# Altium footprint library B 变压器.PcbLib: 17 footprints (part 1 of 2)
Each footprint in its own frame and in the unit in brackets; x right, y up, seen from the top. Pads: shape width x height; smd on the part's side, far side on the other; paste and mask are expansions set on the pad; w line width, h text height; cw(c..) or ccw(c..) is an arc to the next point about the centre after c.
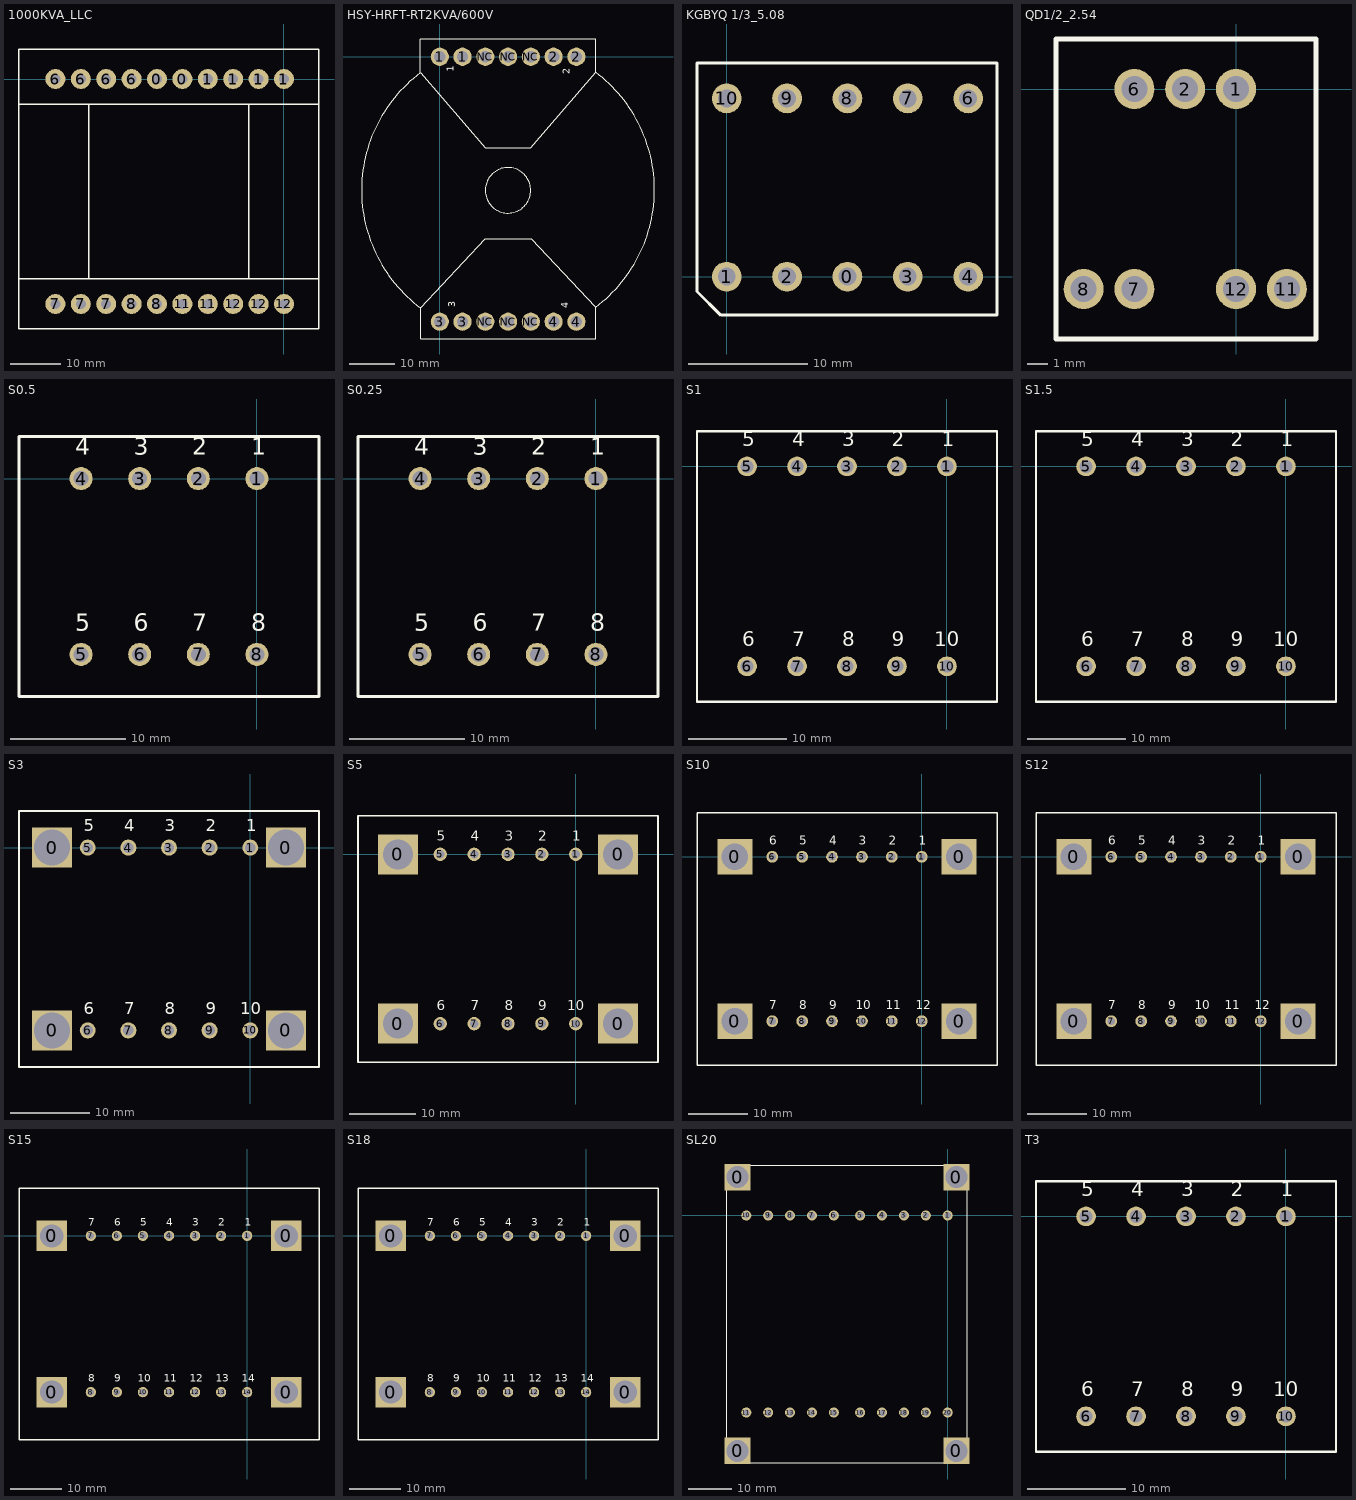
[diagram p0: the footprints below, top view; thin cyan lines are the x and y axes]

## 1000KVA_LLC [mm]
pads (20):
  round 4 hole 2: 0(-25.4,0) 0(-20.32,0) 1(-15.24,0) 1(-10.16,0) 1(-5.08,0) 1(0,0) 6(-45.72,0) 6(-40.64,0) 6(-35.56,0) 6(-30.48,0) 7(-45.72,-45) 7(-40.64,-45) 7(-35.56,-45) 8(-30.48,-45) 8(-25.4,-45) 11(-20.32,-45) 11(-15.24,-45) 12(-10.16,-45) 12(-5.08,-45) 12(0,-45)
Top Overlay:
  lines w0.254: -53,-40 7,-40 ; -53,-5 7,-5 ; -39,-40 -39,-5 ; -7,-40 -7,-5 ; -53,-50 -53,6 7,6 7,-50 -53,-50

## HSY-HRFT-RT2KVA/600V [mm] "2KVA/100KHz"
height 32
pads (14):
  round 4 hole 2.5: 1(0,0) 1(5,0) 2(25,0) 2(30,0) 3(0,-58.2) 3(5,-58.2) 4(25,-58.2) 4(30,-58.2) NC(10,-58.2) NC(10,0) NC(15,-58.2) NC(15,0) NC(20,-58.2) NC(20,0)
Top Overlay:
  circle w0.254: c14.986,-29.337 r5
  lines w0.254: -4.277,-3.567 ccw(c14.986,-29.337) -4.24,-55.134 ; -4.25,3.9 34.25,3.9 ; -4.242,-3.586 -4.242,3.861 ; -4.191,-55.118 10.033,-40.005 20.066,-40.005 34.163,-54.864 ; -4.191,-55 -4.191,-62 34.25,-62 ; -4.191,-3.556 10.033,-19.939 19.939,-19.939 34.29,-3.429 ; 34.212,-3.413 cw(c14.986,-29.21) 34.249,-54.98 ; 34.239,-62.001 34.239,-54.889 ; 34.265,-3.559 34.265,3.886
  text "1" at 3.048,-3.302 h1.52
  text "2" at 28.575,-3.81 h1.52
  text "3" at 3.429,-54.991 h1.52
  text "4" at 28.194,-55.245 h1.52

## KGBYQ 1/3_5.08 [mm]
pads (10):
  round 2.5 hole 1.5: 0(10.16,0) 1(0,0) 2(5.08,0) 3(15.24,0) 4(20.32,0) 6(20.32,15) 7(15.24,15) 8(10.16,15) 9(5.08,15) 10(0,15)
Top Overlay:
  lines w0.254: -2.5,-1.25 -2.5,18 22.75,18 22.75,-3.25 -0.5,-3.25 -2.5,-1.25

## QD1/2_2.54 [mm]
pads (7):
  round 2 hole 1.3: 1(0,0) 2(-2.54,0) 6(-5.08,0) 7(-5.08,-10) 8(-7.62,-10) 11(2.54,-10) 12(0,-10)
Top Overlay:
  lines w0.254: -9,-12.5 -9,2.5 4,2.5 4,-12.5 -9,-12.5

## S0.5 [mm]
pads (8):
  round 2 hole 1.3: 1(0,0) 2(-5.08,0) 3(-10.16,0) 4(-15.24,0) 5(-15.24,-15.24) 6(-10.16,-15.24) 7(-5.08,-15.24) 8(0,-15.24)
Top Overlay:
  lines w0.254: -20.62,-18.87 5.38,-18.87 5.38,3.63 -20.62,3.63 -20.62,-18.87
  text "8" at -0.508,-13.716 h2.54
  text "7" at -5.588,-13.716 h2.54
  text "6" at -10.668,-13.716 h2.54
  text "5" at -15.748,-13.716 h2.54
  text "4" at -15.748,1.524 h2.54
  text "3" at -10.668,1.524 h2.54
  text "2" at -5.588,1.524 h2.54
  text "1" at -0.508,1.524 h2.54
Bottom Overlay:
  text "8" at 0.508,-13.716 h2.54
  text "7" at -4.572,-13.716 h2.54
  text "6" at -9.652,-13.716 h2.54
  text "5" at -14.732,-13.716 h2.54
  text "4" at -14.732,1.524 h2.54
  text "3" at -9.652,1.524 h2.54
  text "2" at -4.572,1.524 h2.54
  text "1" at 0.508,1.524 h2.54

## S0.25 [mm]
pads (8):
  round 2 hole 1.3: 1(0,0) 2(-5.08,0) 3(-10.16,0) 4(-15.24,0) 5(-15.24,-15.24) 6(-10.16,-15.24) 7(-5.08,-15.24) 8(0,-15.24)
Top Overlay:
  lines w0.254: -20.62,-18.87 -20.62,3.63 5.38,3.63 5.38,-18.87 -20.62,-18.87
  text "1" at -0.508,1.524 h2.54
  text "2" at -5.588,1.524 h2.54
  text "3" at -10.668,1.524 h2.54
  text "4" at -15.748,1.524 h2.54
  text "5" at -15.748,-13.716 h2.54
  text "6" at -10.668,-13.716 h2.54
  text "7" at -5.588,-13.716 h2.54
  text "8" at -0.508,-13.716 h2.54
Bottom Overlay:
  text "1" at 0.508,1.524 h2.54
  text "2" at -4.572,1.524 h2.54
  text "3" at -9.652,1.524 h2.54
  text "4" at -14.732,1.524 h2.54
  text "5" at -14.732,-13.716 h2.54
  text "6" at -9.652,-13.716 h2.54
  text "7" at -4.572,-13.716 h2.54
  text "8" at 0.508,-13.716 h2.54

## S1 [mm]
pads (10):
  round 2 hole 1.3: 1(0,0) 2(-5.08,0) 3(-10.16,0) 4(-15.24,0) 5(-20.32,0) 6(-20.32,-20.32) 7(-15.24,-20.32) 8(-10.16,-20.32) 9(-5.08,-20.32) 10(0,-20.32)
Top Overlay:
  lines w0.254: -25.41,-23.91 5.09,-23.91 5.09,3.59 -25.41,3.59 -25.41,-23.91
  text "1" at -0.508,1.524 h2.54
  text "2" at -5.588,1.524 h2.54
  text "3" at -10.668,1.524 h2.54
  text "4" at -15.748,1.524 h2.54
  text "5" at -20.828,1.524 h2.54
  text "6" at -20.828,-18.796 h2.54
  text "7" at -15.748,-18.796 h2.54
  text "8" at -10.668,-18.796 h2.54
  text "9" at -5.588,-18.796 h2.54
  text "10" at -1.27,-18.796 h2.54
Bottom Overlay:
  text "1" at 0.508,1.524 h2.54
  text "2" at -4.572,1.524 h2.54
  text "3" at -9.652,1.524 h2.54
  text "4" at -14.732,1.524 h2.54
  text "5" at -19.812,1.524 h2.54
  text "6" at -19.812,-18.796 h2.54
  text "7" at -14.732,-18.796 h2.54
  text "8" at -9.652,-18.796 h2.54
  text "9" at -4.572,-18.796 h2.54
  text "10" at 1.27,-18.796 h2.54

## S1.5 [mm]
pads (10):
  round 2 hole 1.3: 1(0,0) 2(-5.08,0) 3(-10.16,0) 4(-15.24,0) 5(-20.32,0) 6(-20.32,-20.32) 7(-15.24,-20.32) 8(-10.16,-20.32) 9(-5.08,-20.32) 10(0,-20.32)
Top Overlay:
  lines w0.254: -25.41,-23.91 5.09,-23.91 5.09,3.59 -25.41,3.59 -25.41,-23.91
  text "1" at -0.508,1.524 h2.54
  text "2" at -5.588,1.524 h2.54
  text "3" at -10.668,1.524 h2.54
  text "4" at -15.748,1.524 h2.54
  text "5" at -20.828,1.524 h2.54
  text "6" at -20.828,-18.796 h2.54
  text "7" at -15.748,-18.796 h2.54
  text "8" at -10.668,-18.796 h2.54
  text "9" at -5.588,-18.796 h2.54
  text "10" at -1.27,-18.796 h2.54
Bottom Overlay:
  text "1" at 0.508,1.524 h2.54
  text "2" at -4.572,1.524 h2.54
  text "3" at -9.652,1.524 h2.54
  text "4" at -14.732,1.524 h2.54
  text "5" at -19.812,1.524 h2.54
  text "6" at -19.812,-18.796 h2.54
  text "7" at -14.732,-18.796 h2.54
  text "8" at -9.652,-18.796 h2.54
  text "9" at -4.572,-18.796 h2.54
  text "10" at 1.27,-18.796 h2.54

## S3 [mm]
pads (14):
  rect 5x5 hole 4.5: 0(-24.765,-22.86) 0(-24.765,0) 0(4.445,-22.86) 0(4.445,0)
  round 2 hole 1.3: 1(0,0) 2(-5.08,0) 3(-10.16,0) 4(-15.24,0) 5(-20.32,0) 6(-20.32,-22.86) 7(-15.24,-22.86) 8(-10.16,-22.86) 9(-5.08,-22.86) 10(0,-22.86)
Top Overlay:
  lines w0.254: -28.91,-27.43 8.59,-27.43 8.59,4.57 -28.91,4.57 -28.91,-27.43
  text "10" at -1.27,-21.336 h2.54
  text "9" at -5.588,-21.336 h2.54
  text "8" at -10.668,-21.336 h2.54
  text "7" at -15.748,-21.336 h2.54
  text "6" at -20.828,-21.336 h2.54
  text "5" at -20.828,1.524 h2.54
  text "4" at -15.748,1.524 h2.54
  text "3" at -10.668,1.524 h2.54
  text "2" at -5.588,1.524 h2.54
  text "1" at -0.508,1.524 h2.54
Bottom Overlay:
  text "10" at 1.27,-21.336 h2.54
  text "9" at -4.572,-21.336 h2.54
  text "8" at -9.652,-21.336 h2.54
  text "7" at -14.732,-21.336 h2.54
  text "6" at -19.812,-21.336 h2.54
  text "5" at -19.812,1.524 h2.54
  text "4" at -14.732,1.524 h2.54
  text "3" at -9.652,1.524 h2.54
  text "2" at -4.572,1.524 h2.54
  text "1" at 0.508,1.524 h2.54

## S5 [mm]
pads (14):
  rect 6x6 hole 4.5: 0(-26.67,-25.4) 0(-26.67,0) 0(6.35,-25.4) 0(6.35,0)
  round 2 hole 1.3: 1(0,0) 2(-5.08,0) 3(-10.16,0) 4(-15.24,0) 5(-20.32,0) 6(-20.32,-25.4) 7(-15.24,-25.4) 8(-10.16,-25.4) 9(-5.08,-25.4) 10(0,-25.4)
Top Overlay:
  lines w0.254: -32.66,-31.2 -32.66,5.8 12.34,5.8 12.34,-31.2 -32.66,-31.2
  text "5" at -20.828,1.524 h2.54
  text "4" at -15.748,1.524 h2.54
  text "3" at -10.668,1.524 h2.54
  text "2" at -5.588,1.524 h2.54
  text "1" at -0.508,1.524 h2.54
  text "10" at -1.27,-23.876 h2.54
  text "9" at -5.588,-23.876 h2.54
  text "8" at -10.668,-23.876 h2.54
  text "7" at -15.748,-23.876 h2.54
  text "6" at -20.828,-23.876 h2.54
Bottom Overlay:
  text "5" at -19.812,1.524 h2.54
  text "4" at -14.732,1.524 h2.54
  text "3" at -9.652,1.524 h2.54
  text "2" at -4.572,1.524 h2.54
  text "1" at 0.508,1.524 h2.54
  text "10" at 1.27,-23.876 h2.54
  text "9" at -4.572,-23.876 h2.54
  text "8" at -9.652,-23.876 h2.54
  text "7" at -14.732,-23.876 h2.54
  text "6" at -19.812,-23.876 h2.54

## S10 [mm]
pads (16):
  rect 6x6 hole 4.5: 0(-31.75,-27.94) 0(-31.75,0) 0(6.35,-27.94) 0(6.35,0)
  round 2 hole 1.3: 1(0,0) 2(-5.08,0) 3(-10.16,0) 4(-15.24,0) 5(-20.32,0) 6(-25.4,0) 7(-25.4,-27.94) 8(-20.32,-27.94) 9(-15.24,-27.94) 10(-10.16,-27.94) 11(-5.08,-27.94) 12(0,-27.94)
Top Overlay:
  lines w0.254: -38.2,-35.47 12.8,-35.47 12.8,7.53 -38.2,7.53 -38.2,-35.47
  text "12" at -1.016,-26.416 h2.54
  text "11" at -6.096,-26.416 h2.54
  text "10" at -11.176,-26.416 h2.54
  text "9" at -15.748,-26.416 h2.54
  text "8" at -20.828,-26.416 h2.54
  text "7" at -25.908,-26.416 h2.54
  text "6" at -25.908,1.524 h2.54
  text "5" at -20.828,1.524 h2.54
  text "4" at -15.748,1.524 h2.54
  text "3" at -10.668,1.524 h2.54
  text "2" at -5.588,1.524 h2.54
  text "1" at -0.508,1.524 h2.54
Bottom Overlay:
  text "12" at 1.27,-26.416 h2.54
  text "11" at -4.064,-26.416 h2.54
  text "10" at -8.89,-26.416 h2.54
  text "9" at -14.732,-26.416 h2.54
  text "8" at -19.812,-26.416 h2.54
  text "7" at -24.892,-26.416 h2.54
  text "6" at -24.892,1.524 h2.54
  text "5" at -19.812,1.524 h2.54
  text "4" at -14.732,1.524 h2.54
  text "3" at -9.652,1.524 h2.54
  text "2" at -4.572,1.524 h2.54
  text "1" at 0.508,1.524 h2.54

## S12 [mm]
pads (16):
  rect 6x6 hole 4.5: 0(-31.75,-27.94) 0(-31.75,0) 0(6.35,-27.94) 0(6.35,0)
  round 2 hole 1.3: 1(0,0) 2(-5.08,0) 3(-10.16,0) 4(-15.24,0) 5(-20.32,0) 6(-25.4,0) 7(-25.4,-27.94) 8(-20.32,-27.94) 9(-15.24,-27.94) 10(-10.16,-27.94) 11(-5.08,-27.94) 12(0,-27.94)
Top Overlay:
  lines w0.254: -38.2,-35.47 12.8,-35.47 12.8,7.53 -38.2,7.53 -38.2,-35.47
  text "7" at -25.908,-26.416 h2.54
  text "8" at -20.828,-26.416 h2.54
  text "9" at -15.748,-26.416 h2.54
  text "10" at -11.176,-26.416 h2.54
  text "11" at -6.096,-26.416 h2.54
  text "12" at -1.016,-26.416 h2.54
  text "1" at -0.508,1.524 h2.54
  text "2" at -5.588,1.524 h2.54
  text "3" at -10.668,1.524 h2.54
  text "4" at -15.748,1.524 h2.54
  text "5" at -20.828,1.524 h2.54
  text "6" at -25.908,1.524 h2.54
Bottom Overlay:
  text "7" at -24.892,-26.416 h2.54
  text "8" at -19.812,-26.416 h2.54
  text "9" at -14.732,-26.416 h2.54
  text "10" at -8.89,-26.416 h2.54
  text "11" at -4.064,-26.416 h2.54
  text "12" at 1.27,-26.416 h2.54
  text "1" at 0.508,1.524 h2.54
  text "2" at -4.572,1.524 h2.54
  text "3" at -9.652,1.524 h2.54
  text "4" at -14.732,1.524 h2.54
  text "5" at -19.812,1.524 h2.54
  text "6" at -24.892,1.524 h2.54

## S15 [mm]
pads (18):
  rect 6x6 hole 4.5: 0(-38.1,-30.48) 0(-38.1,0) 0(7.62,-30.48) 0(7.62,0)
  round 2 hole 1.3: 1(0,0) 2(-5.08,0) 3(-10.16,0) 4(-15.24,0) 5(-20.32,0) 6(-25.4,0) 7(-30.48,0) 8(-30.48,-30.48) 9(-25.4,-30.48) 10(-20.32,-30.48) 11(-15.24,-30.48) 12(-10.16,-30.48) 13(-5.08,-30.48) 14(0,-30.48)
Top Overlay:
  lines w0.254: -44.49,-39.74 -44.49,9.26 14.01,9.26 14.01,-39.74 -44.49,-39.74
  text "13" at -6.096,-28.956 h2.54
  text "14" at -1.016,-28.956 h2.54
  text "12" at -11.176,-28.956 h2.54
  text "11" at -16.256,-28.956 h2.54
  text "10" at -21.336,-28.956 h2.54
  text "9" at -25.908,-28.956 h2.54
  text "8" at -30.988,-28.956 h2.54
  text "6" at -25.908,1.524 h2.54
  text "5" at -20.828,1.524 h2.54
  text "4" at -15.748,1.524 h2.54
  text "3" at -10.668,1.524 h2.54
  text "2" at -5.588,1.524 h2.54
  text "1" at -0.508,1.524 h2.54
  text "7" at -30.988,1.524 h2.54
Bottom Overlay:
  text "13" at -4.064,-28.956 h2.54
  text "14" at 1.27,-28.956 h2.54
  text "12" at -8.89,-28.956 h2.54
  text "11" at -14.224,-28.956 h2.54
  text "10" at -19.05,-28.956 h2.54
  text "9" at -24.892,-28.956 h2.54
  text "8" at -29.972,-28.956 h2.54
  text "6" at -24.892,1.524 h2.54
  text "5" at -19.812,1.524 h2.54
  text "4" at -14.732,1.524 h2.54
  text "3" at -9.652,1.524 h2.54
  text "2" at -4.572,1.524 h2.54
  text "1" at 0.508,1.524 h2.54
  text "7" at -29.972,1.524 h2.54

## S18 [mm]
pads (18):
  rect 6x6 hole 4.5: 0(-38.1,-30.48) 0(-38.1,0) 0(7.62,-30.48) 0(7.62,0)
  round 2 hole 1.3: 1(0,0) 2(-5.08,0) 3(-10.16,0) 4(-15.24,0) 5(-20.32,0) 6(-25.4,0) 7(-30.48,0) 8(-30.48,-30.48) 9(-25.4,-30.48) 10(-20.32,-30.48) 11(-15.24,-30.48) 12(-10.16,-30.48) 13(-5.08,-30.48) 14(0,-30.48)
Top Overlay:
  lines w0.254: -44.49,-39.74 -44.49,9.26 14.01,9.26 14.01,-39.74 -44.49,-39.74
  text "6" at -25.908,1.524 h2.54
  text "5" at -20.828,1.524 h2.54
  text "4" at -15.748,1.524 h2.54
  text "3" at -10.668,1.524 h2.54
  text "2" at -5.588,1.524 h2.54
  text "1" at -0.508,1.524 h2.54
  text "7" at -30.988,1.524 h2.54
  text "13" at -6.096,-28.956 h2.54
  text "14" at -1.016,-28.956 h2.54
  text "12" at -11.176,-28.956 h2.54
  text "11" at -16.256,-28.956 h2.54
  text "10" at -21.336,-28.956 h2.54
  text "9" at -25.908,-28.956 h2.54
  text "8" at -30.988,-28.956 h2.54
Bottom Overlay:
  text "6" at -24.892,1.524 h2.54
  text "5" at -19.812,1.524 h2.54
  text "4" at -14.732,1.524 h2.54
  text "3" at -9.652,1.524 h2.54
  text "2" at -4.572,1.524 h2.54
  text "1" at 0.508,1.524 h2.54
  text "7" at -29.972,1.524 h2.54
  text "13" at -4.064,-28.956 h2.54
  text "14" at 1.27,-28.956 h2.54
  text "12" at -8.89,-28.956 h2.54
  text "11" at -14.224,-28.956 h2.54
  text "10" at -19.05,-28.956 h2.54
  text "9" at -24.892,-28.956 h2.54
  text "8" at -29.972,-28.956 h2.54

## SL20 [mm]
pads (24):
  rect 6x6 hole 5: 0(-48,-53.75) 0(-48,8.75) 0(2,-53.75) 0(2,8.75)
  round 2.3 hole 1.5: 1(0,0) 2(-5,0) 3(-10,0) 4(-15,0) 5(-20,0) 6(-26,0) 7(-31,0) 8(-36,0) 9(-41,0) 10(-46,0) 11(-46,-45) 12(-41,-45) 13(-36,-45) 14(-31,-45) 15(-26,-45) 16(-20,-45) 17(-15,-45) 18(-10,-45) 19(-5,-45) 20(0,-45)
Top Overlay:
  lines w0.254: -50.5,-56.5 4.5,-56.5 4.5,11.5 -50.5,11.5 -50.5,-56.5

## T3 [mm]
pads (10):
  round 2 hole 1.3: 1(0,0) 2(-5.08,0) 3(-10.16,0) 4(-15.24,0) 5(-20.32,0) 6(-20.32,-20.32) 7(-15.24,-20.32) 8(-10.16,-20.32) 9(-5.08,-20.32) 10(0,-20.32)
Top Overlay:
  lines w0.254: -25.41,-23.91 -25.41,3.59 5.09,3.59 5.09,-23.91 -25.41,-23.91
  text "6" at -20.828,-18.796 h2.54
  text "7" at -15.748,-18.796 h2.54
  text "8" at -10.668,-18.796 h2.54
  text "9" at -5.588,-18.796 h2.54
  text "10" at -1.27,-18.796 h2.54
  text "1" at -0.508,1.524 h2.54
  text "2" at -5.588,1.524 h2.54
  text "3" at -10.668,1.524 h2.54
  text "4" at -15.748,1.524 h2.54
  text "5" at -20.828,1.524 h2.54
Bottom Overlay:
  text "6" at -19.812,-18.796 h2.54
  text "7" at -14.732,-18.796 h2.54
  text "8" at -9.652,-18.796 h2.54
  text "9" at -4.572,-18.796 h2.54
  text "10" at 1.27,-18.796 h2.54
  text "1" at 0.508,1.524 h2.54
  text "2" at -4.572,1.524 h2.54
  text "3" at -9.652,1.524 h2.54
  text "4" at -14.732,1.524 h2.54
  text "5" at -19.812,1.524 h2.54